# Altium integrated library CGA2B3X7R1E224K050BE.IntLib: 1 symbol
Pins are listed as number, name and electrical type; pins without a type are passive.

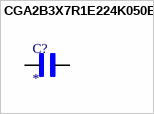
[diagram p0: symbol CGA2B3X7R1E224K050BE]

## CGA2B3X7R1E224K050BE
designator C?
Cap Ceramic 0.22uF 25V X7R 10% Pad SMD 0402 Soft Termination 125C Automotive T/R; MF: TDK; MP: CGA2B3X7R1E224K050BE; SnapEDA_Link: https://www.snapeda.com/parts/CGA2B3X7R1E224K050BE/TDK/view-part/?ref=snap; Package: 1005 TDK; Value: *; Check_prices: https://www.snapeda.com/parts/CGA2B3X7R1E224K050BE/TDK/view-part/?ref=eda
footprint CAPC1005X60N
pins: 1, 2